# Altium footprint library TE_284513-3.PcbLib: 1 footprints
Each footprint in its own frame and in the unit in brackets; x right, y up, seen from the top. Pads: shape width x height; smd on the part's side, far side on the other; paste and mask are expansions set on the pad; w line width, h text height; cw(c..) or ccw(c..) is an arc to the next point about the centre after c.
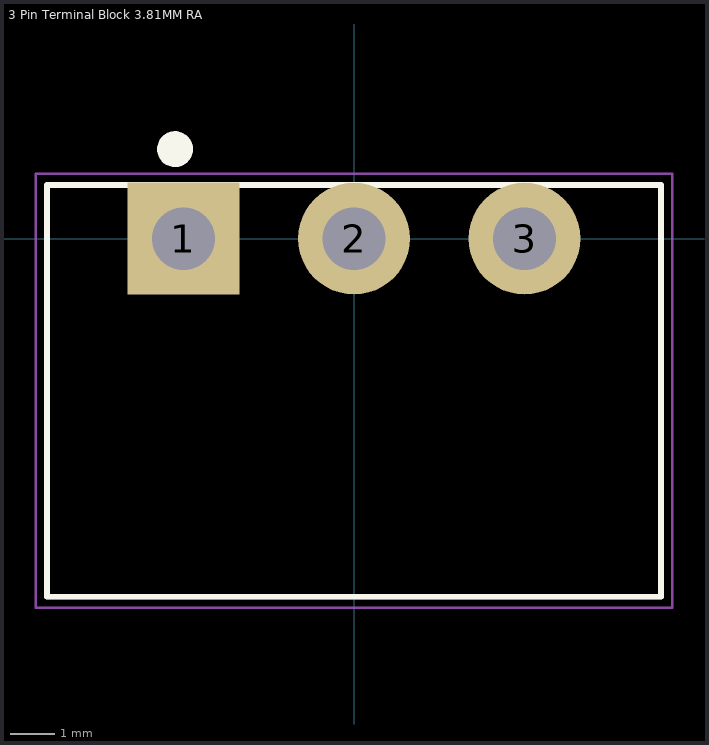
[diagram p0: the footprint, top view; thin cyan lines are the x and y axes]

## 3 Pin Terminal Block 3.81MM RA [mm] "3 Pin Terminal Block HDR 3.81MM THT RA 284513-3"
pads (3):
  rect 2.5x2.5 hole 1.4: 1(-3.81,0)
  round 2.5 hole 1.4: 2(0,0) 3(3.81,0)
Top Overlay:
  circle w0.4: c-4,2 r0.2
  lines w0.127: -6.86,-8 -6.86,1.2 6.86,1.2 6.86,-8 -6.86,-8
Mechanical 13:
  lines w0.127: -6.86,-8 6.86,-8 6.86,1.2 -6.86,1.2 -6.86,-8
Mechanical 15:
  lines w0.05: -7.11,-8.25 7.11,-8.25 7.11,1.45 -7.11,1.45 -7.11,-8.25
3D body "step_temp.STEP": height 7.3, standoff -3.4, extent -6.86,-8.001 6.86,1.199